# Altium footprint library WRIS-PSMB.PcbLib: 5 footprints
Each footprint in its own frame and in the unit in brackets; x right, y up, seen from the top. Pads: shape width x height; smd on the part's side, far side on the other; paste and mask are expansions set on the pad; w line width, h text height; cw(c..) or ccw(c..) is an arc to the next point about the centre after c.
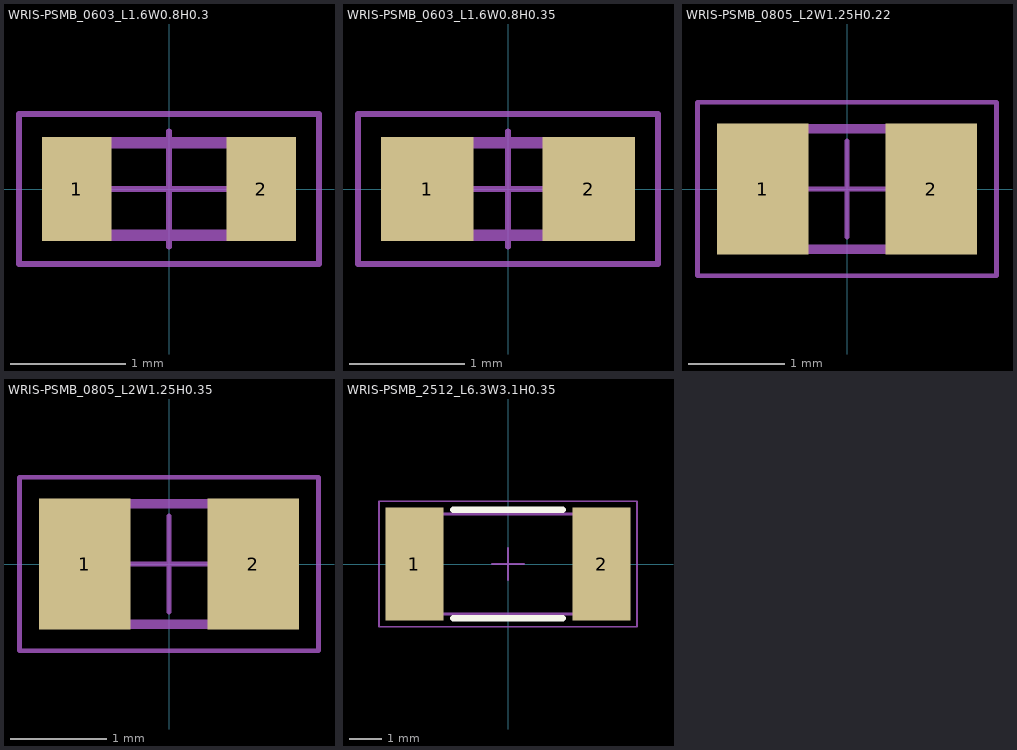
[diagram p0: the footprints below, top view; thin cyan lines are the x and y axes]

## WRIS-PSMB_0603_L1.6W0.8H0.3 [mm] "Metal Plate Resistor, SMT, body size 1.6x0.8mm"
height 0.3
pads (2):
  rect 0.6x0.9 smd: 1(-0.8,0) 2(0.8,0)
Top Designator:
  text ".Designator" at -2.499,-0.167 h0.5
Top Component Outline:
  lines w0.1: -0.8,-0.4 -0.8,0.4 0.8,0.4 0.8,-0.4 -0.8,-0.4
Top Courtyard:
  lines w0.05: -0.5,0 0.5,0 ; 0,-0.5 0,0.5 ; -1.3,-0.65 1.3,-0.65 1.3,0.65 -1.3,0.65 -1.3,-0.65
3D body "WRIS-PSMB_0603.stp": height 0.3, standoff 0, extent -0.8,-0.4 0.8,0.4

## WRIS-PSMB_0603_L1.6W0.8H0.35 [mm] "Metal Plate Resistor, SMT, body size 1.6x0.8mm"
height 0.35
pads (2):
  rect 0.8x0.9 smd: 1(-0.7,0) 2(0.7,0)
Top Designator:
  text ".Designator" at -2.499,-0.167 h0.5
Top Component Outline:
  lines w0.1: -0.8,-0.4 0.8,-0.4 0.8,0.4 -0.8,0.4 -0.8,-0.4
Top Courtyard:
  lines w0.05: -0.5,0 0.5,0 ; 0,-0.5 0,0.5 ; -1.3,-0.65 1.3,-0.65 1.3,0.65 -1.3,0.65 -1.3,-0.65
3D body "WRIS-PSMB_0603.stp": height 0.35, standoff 0, extent -0.8,-0.4 0.8,0.4

## WRIS-PSMB_0805_L2W1.25H0.22 [mm] "Metal Plate Resistor, SMT, body size 2x1.25mm"
height 0.22
pads (2):
  rect 0.95x1.36 smd: 1(-0.875,0) 2(0.875,0)
Top Designator:
  text ".Designator" at -2.499,-0.167 h0.5
Top Component Outline:
  lines w0.1: -1,-0.625 -1,0.625 1,0.625 1,-0.625 -1,-0.625
Top Courtyard:
  lines w0.05: -0.5,0 0.5,0 ; 0,-0.5 0,0.5 ; -1.55,-0.9 -1.55,0.9 1.55,0.9 1.55,-0.9 -1.55,-0.9
3D body "WRIS-PSMB_0805.stp": height 0.22, standoff 0, extent -1,-0.625 1,0.625

## WRIS-PSMB_0805_L2W1.25H0.35 [mm] "Metal Plate Resistor, SMT, body size 2x1.25mm"
height 0.35
pads (2):
  rect 0.95x1.36 smd: 1(-0.875,0) 2(0.875,0)
Top Designator:
  text ".Designator" at -2.499,-0.167 h0.5
Top Component Outline:
  lines w0.1: -1,-0.625 -1,0.625 1,0.625 1,-0.625 -1,-0.625
Top Courtyard:
  lines w0.05: -0.5,0 0.5,0 ; 0,-0.5 0,0.5 ; -1.55,-0.9 -1.55,0.9 1.55,0.9 1.55,-0.9 -1.55,-0.9
3D body "WRIS-PSMB_0805.stp": height 0.35, standoff 0, extent -1,-0.625 1,0.625

## WRIS-PSMB_2512_L6.3W3.1H0.35 [mm] "Metal Plate Resistor, SMT, body size 6.3x3.1mm"
height 0.35
pads (2):
  rect 1.8x3.5 smd: 1(-2.9,0) 2(2.9,0)
Top Overlay:
  lines w0.2: -1.7,-1.675 1.7,-1.675 ; -1.7,1.675 1.7,1.675
Top Designator:
  text ".Designator" at -7.498,-0.5 h1.5
Top Component Outline:
  lines w0.1: -3.15,-1.55 3.15,-1.55 3.15,1.55 -3.15,1.55 -3.15,-1.55
Top Courtyard:
  lines w0.05: -0.5,0 0.5,0 ; 0,-0.5 0,0.5 ; -4,-1.95 4,-1.95 4,1.95 -4,1.95 -4,-1.95
3D body "WRIS-PSMB_2512.stp": height 0.35, standoff 0, extent -3.15,-1.55 3.15,1.55